# Altium footprint library NTC_TH.PcbLib: 10 footprints
Each footprint in its own frame and in the unit in brackets; x right, y up, seen from the top. Pads: shape width x height; smd on the part's side, far side on the other; paste and mask are expansions set on the pad; w line width, h text height; cw(c..) or ccw(c..) is an arc to the next point about the centre after c.
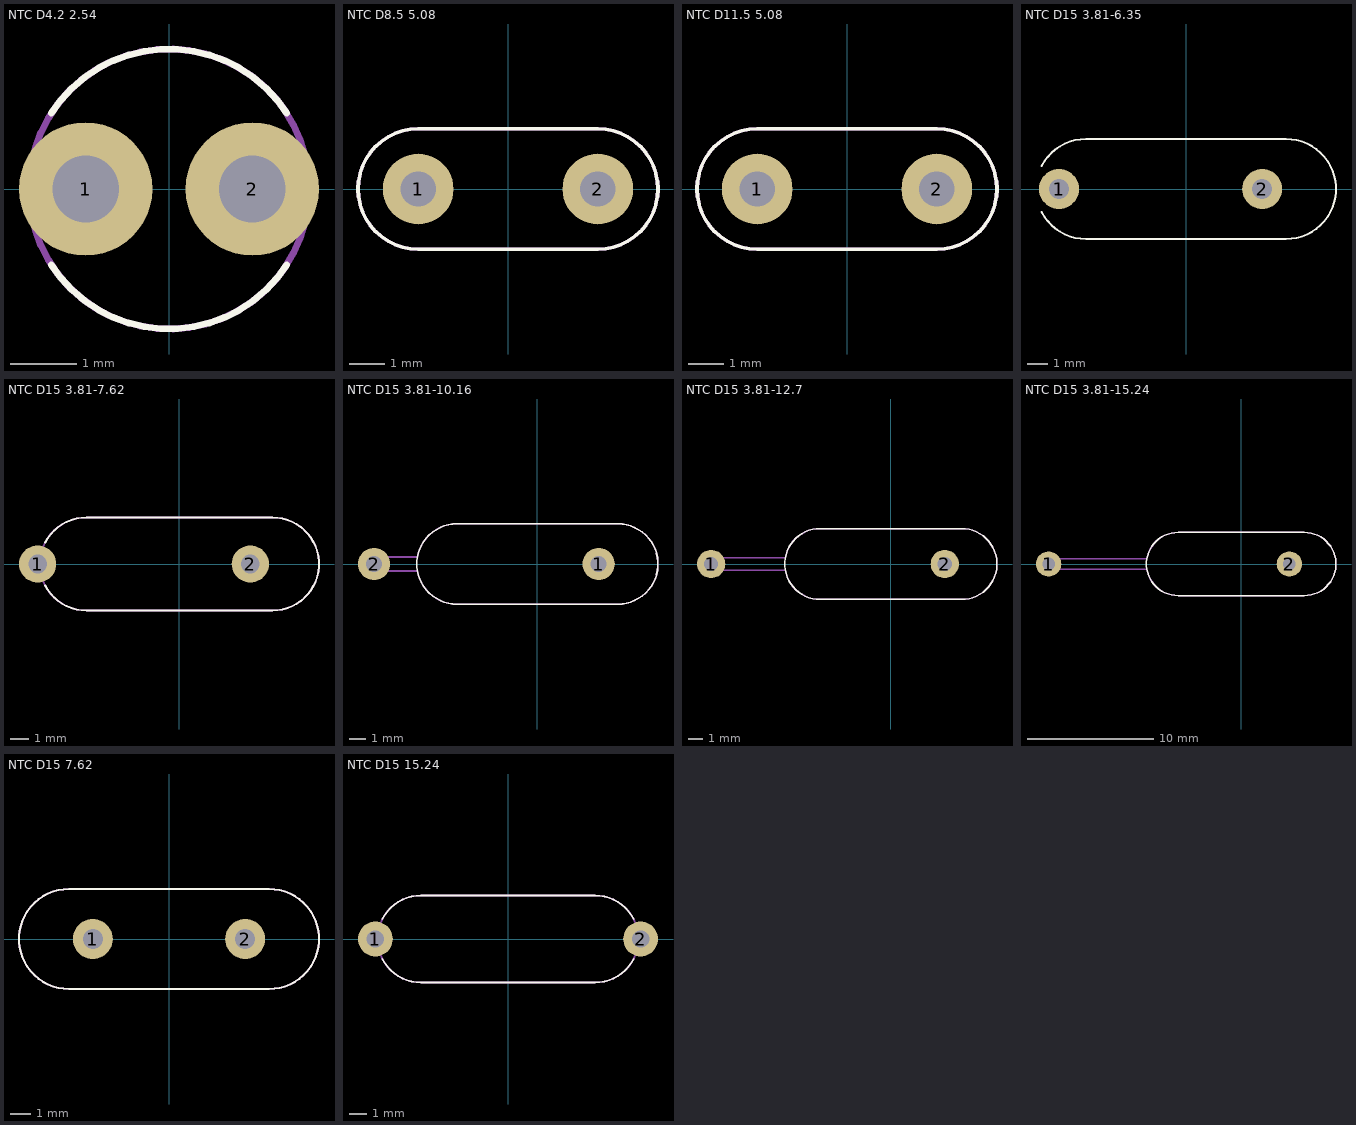
[diagram p0: the footprints below, top view; thin cyan lines are the x and y axes]

## NTC D4.2 2.54 [mm]
pads (2):
  round 2 hole 1: 1(-1.25,0) 2(1.25,0)
Top Overlay:
  lines w0.1: -1.767,-1.136 ccw(c0,0) 1.766,-1.136 ; -1.766,1.136 cw(c0,0) 1.767,1.136
Top Courtyard:
  circle w0.1: c0,0 r2.1
3D body "NTC 2.STEP": height 7.99, standoff -3, extent -2.1,-2 2.096,2

## NTC D8.5 5.08 [mm]
pads (2):
  round 2 hole 1: 1(-2.54,0) 2(2.54,0)
Top Overlay:
  lines w0.1: -2.54,-1.7 cw(c-2.54,0) -2.54,1.7 2.54,1.7 cw(c2.54,0) 2.54,-1.7 -2.54,-1.7
Top Courtyard:
  lines w0.1: -2.54,-1.7 cw(c-2.54,0) -2.54,1.7 2.54,1.7 cw(c2.54,0) 2.54,-1.7 -2.54,-1.7
3D body "NTC B57153 d8.5 5mm.STEP": height 14.25, standoff 0, extent -4.25,-1.679 4.25,1.68

## NTC D11.5 5.08 [mm]
pads (2):
  round 2 hole 1: 1(-2.54,0) 2(2.54,0)
Top Overlay:
  lines w0.1: -2.54,-1.7 cw(c-2.54,0) -2.54,1.7 2.54,1.7 cw(c2.54,0) 2.54,-1.7 -2.54,-1.7
Top Courtyard:
  lines w0.1: -2.54,-1.7 cw(c-2.54,0) -2.54,1.7 ; -2.54,-1.7 cw(c-2.54,0) -2.54,1.7 ; -2.54,-1.7 2.54,-1.7 ; -2.54,-1.7 2.54,-1.7 ; -2.54,1.7 2.54,1.7 ; -2.54,1.7 2.54,1.7 ; 2.54,-1.7 ccw(c2.54,0) 2.54,1.7 ; 2.54,-1.7 ccw(c2.54,0) 2.54,1.7
3D body "NTC B57153 d8.5 5mm.STEP": height 14.25, standoff 0, extent -4.25,-1.679 4.25,1.68

## NTC D15 3.81-6.35 [mm]
pads (2):
  round 2 hole 1: 1(-6.35,0) 2(3.81,0)
Top Overlay:
  lines w0.1: -7.224,-1.141 ccw(c-5,0) -5,-2.5 ; -7.224,1.141 cw(c-5,0) -5,2.5 5,2.5 cw(c5,0) 5,-2.5 -5,-2.5
3D body "NTC-B57237 3.81-6.STEP": height 22.5, standoff -2.5, extent -7.5,-2.5 7.5,2.5

## NTC D15 3.81-7.62 [mm]
pads (2):
  round 2 hole 1: 1(-7.62,0) 2(3.81,0)
Top Overlay:
  lines w0.1: -7.224,-1.141 ccw(c-5,0) -5,-2.5 ; -7.224,1.141 cw(c-5,0) -5,2.5 5,2.5 cw(c5,0) 5,-2.5 -5,-2.5
Top Courtyard:
  lines w0.1: -5,-2.5 cw(c-5,0) -5,2.5 5,2.5 cw(c5,0) 5,-2.5 -5,-2.5
3D body "NTC-B57237 3.81-7.STEP": height 22.5, standoff -2.5, extent -8.02,-2.5 7.5,2.5

## NTC D15 3.81-10.16 [mm]
pads (2):
  round 2 hole 1: 1(3.81,0) 2(-10.16,0)
Top Overlay:
  lines w0.1: -5,-2.5 cw(c-5,0) -5,2.5 5,2.5 cw(c5,0) 5,-2.5 -5,-2.5
Top Courtyard:
  lines w0.1: -10.125,-0.434 -10.125,0.434 -7.462,0.434 cw(c-5,0) -5,2.5 5,2.5 cw(c5,0) 5,-2.5 -5,-2.5 cw(c-5,0) -7.462,-0.434 -10.125,-0.434
3D body "NTC-B57237 3.81-10.STEP": height 22.5, standoff -2.5, extent -10.56,-2.5 7.5,2.5

## NTC D15 3.81-12.7 [mm]
pads (2):
  round 2 hole 1: 1(-12.7,0) 2(3.81,0)
Top Overlay:
  lines w0.1: -5,-2.5 cw(c-5,0) -5,2.5 5,2.5 cw(c5,0) 5,-2.5 -5,-2.5
Top Courtyard:
  lines w0.1: -12.625,-0.434 -12.625,0.434 -7.462,0.434 cw(c-5,0) -5,2.5 5,2.5 cw(c5,0) 5,-2.5 -5,-2.5 cw(c-5,0) -7.462,-0.434 -12.625,-0.434
3D body "NTC-B57237 3.81-12.STEP": height 22.5, standoff -2.5, extent -13.1,-2.5 7.5,2.5

## NTC D15 3.81-15.24 [mm]
pads (2):
  round 2 hole 1: 1(-15.24,0) 2(3.81,0)
Top Overlay:
  lines w0.1: -5,-2.5 cw(c-5,0) -5,2.5 5,2.5 cw(c5,0) 5,-2.5 -5,-2.5
Top Courtyard:
  lines w0.1: -15.25,-0.434 -15.25,0.434 -7.462,0.434 cw(c-5,0) -5,2.5 5,2.5 cw(c5,0) 5,-2.5 -5,-2.5 cw(c-5,0) -7.462,-0.434 -15.25,-0.434
3D body "NTC-B57237 3.81-15.STEP": height 22.5, standoff -2.5, extent -15.64,-2.5 7.5,2.5

## NTC D15 7.62 [mm]
pads (2):
  round 2 hole 1: 1(-3.81,0) 2(3.81,0)
Top Overlay:
  lines w0.1: -5,-2.5 cw(c-5,0) -5,2.5 5,2.5 cw(c5,0) 5,-2.5 -5,-2.5
Top Courtyard:
  lines w0.1: -5,-2.5 cw(c-5,0) -5,2.5 5,2.5 cw(c5,0) 5,-2.5 -5,-2.5
3D body "NTC-B57237 7.STEP": height 22.5, standoff -2.5, extent -7.5,-2.5 7.5,2.5

## NTC D15 15.24 [mm]
pads (2):
  round 2 hole 1: 1(-7.62,0) 2(7.62,0)
Top Overlay:
  lines w0.1: -7.224,-1.141 ccw(c-5,0) -5,-2.5 5,-2.5 ; -7.224,1.141 cw(c-5,0) -5,2.5 5,2.5 cw(c5,0) 7.224,1.141 ; 5,-2.5 ccw(c5,0) 7.224,-1.141
Top Courtyard:
  lines w0.1: -5,-2.5 cw(c-5,0) -5,2.5 5,2.5 cw(c5,0) 5,-2.5 -5,-2.5
3D body "NTC-B57237 7.62-7.STEP": height 22.5, standoff -2.5, extent -8.02,-2.5 8.079,2.5